# Altium footprint library SD Connector 5027740891.PcbLib: 1 footprints
Each footprint in its own frame and in the unit in brackets; x right, y up, seen from the top. Pads: shape width x height; smd on the part's side, far side on the other; paste and mask are expansions set on the pad; w line width, h text height; cw(c..) or ccw(c..) is an arc to the next point about the centre after c.
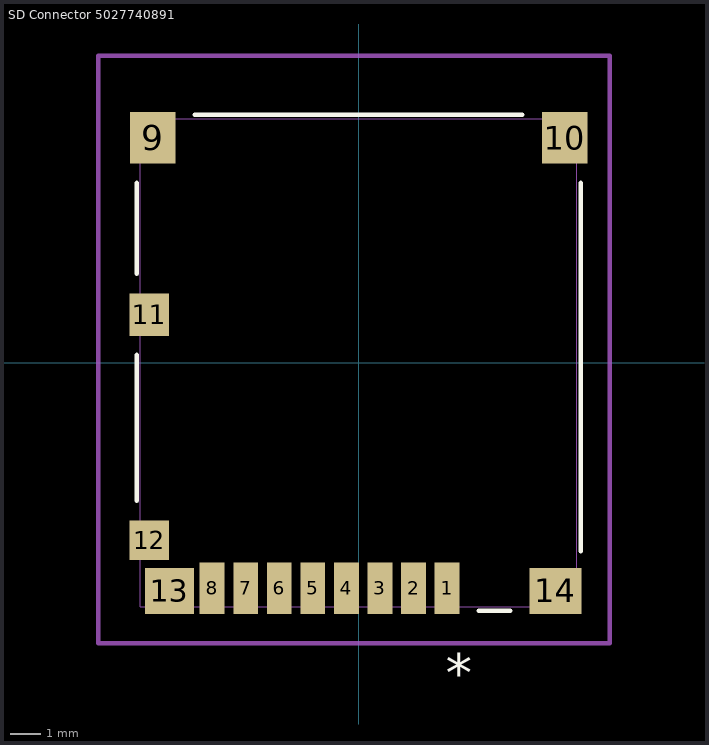
[diagram p0: the footprint, top view; thin cyan lines are the x and y axes]

## SD Connector 5027740891 [mil]
height 70.87
pads (14):
  rect 32x66 smd paste+0 mask+0: 1(114.13,-290.83) 2(70.83,-290.83) 3(27.52,-290.83) 4(-15.79,-290.83) 5(-59.09,-290.83) 6(-102.4,-290.83) 7(-145.71,-290.83) 8(-189.02,-290.83)
  rect 59x67 smd: 9(-265.77,290.33) 10(265.77,290.33)
  rect 51x55 smd paste+0 mask+0: 11(-270.04,62.09)
  rect 51x51 smd: 12(-270.04,-229.25)
  rect 63x59 smd: 13(-244.14,-294.33)
  rect 67x59 smd: 14(253.92,-294.33)
Top Overlay:
  lines w6: -286.5,-178 -286.5,10 ; -286.5,114.83 -286.5,231.83 ; -211.27,320 211.27,320 ; 155.13,-320 195.53,-320 ; 286.5,-243.07 286.5,231.83
  text "*" at 112.5,-425 h50
Mechanical 13:
  lines w1: -281.5,-315 281.5,-315 281.5,315 -281.5,315 -281.5,-315
  text "*" at 164,-425 h50
Mechanical 15:
  lines w6: -336,-362 324,-362 324,396 -336,396 -336,-362
3D body: height 10, standoff 0, extent 0,0 10,10
3D body "5027740891.stp": height -12.99, standoff -83.86, extent -279.85,-312.04 283.15,317.88